# Altium footprint library custom.PcbLib: 39 footprints (part 1 of 3)
Each footprint in its own frame and in the unit in brackets; x right, y up, seen from the top. Pads: shape width x height; smd on the part's side, far side on the other; paste and mask are expansions set on the pad; w line width, h text height; cw(c..) or ccw(c..) is an arc to the next point about the centre after c.
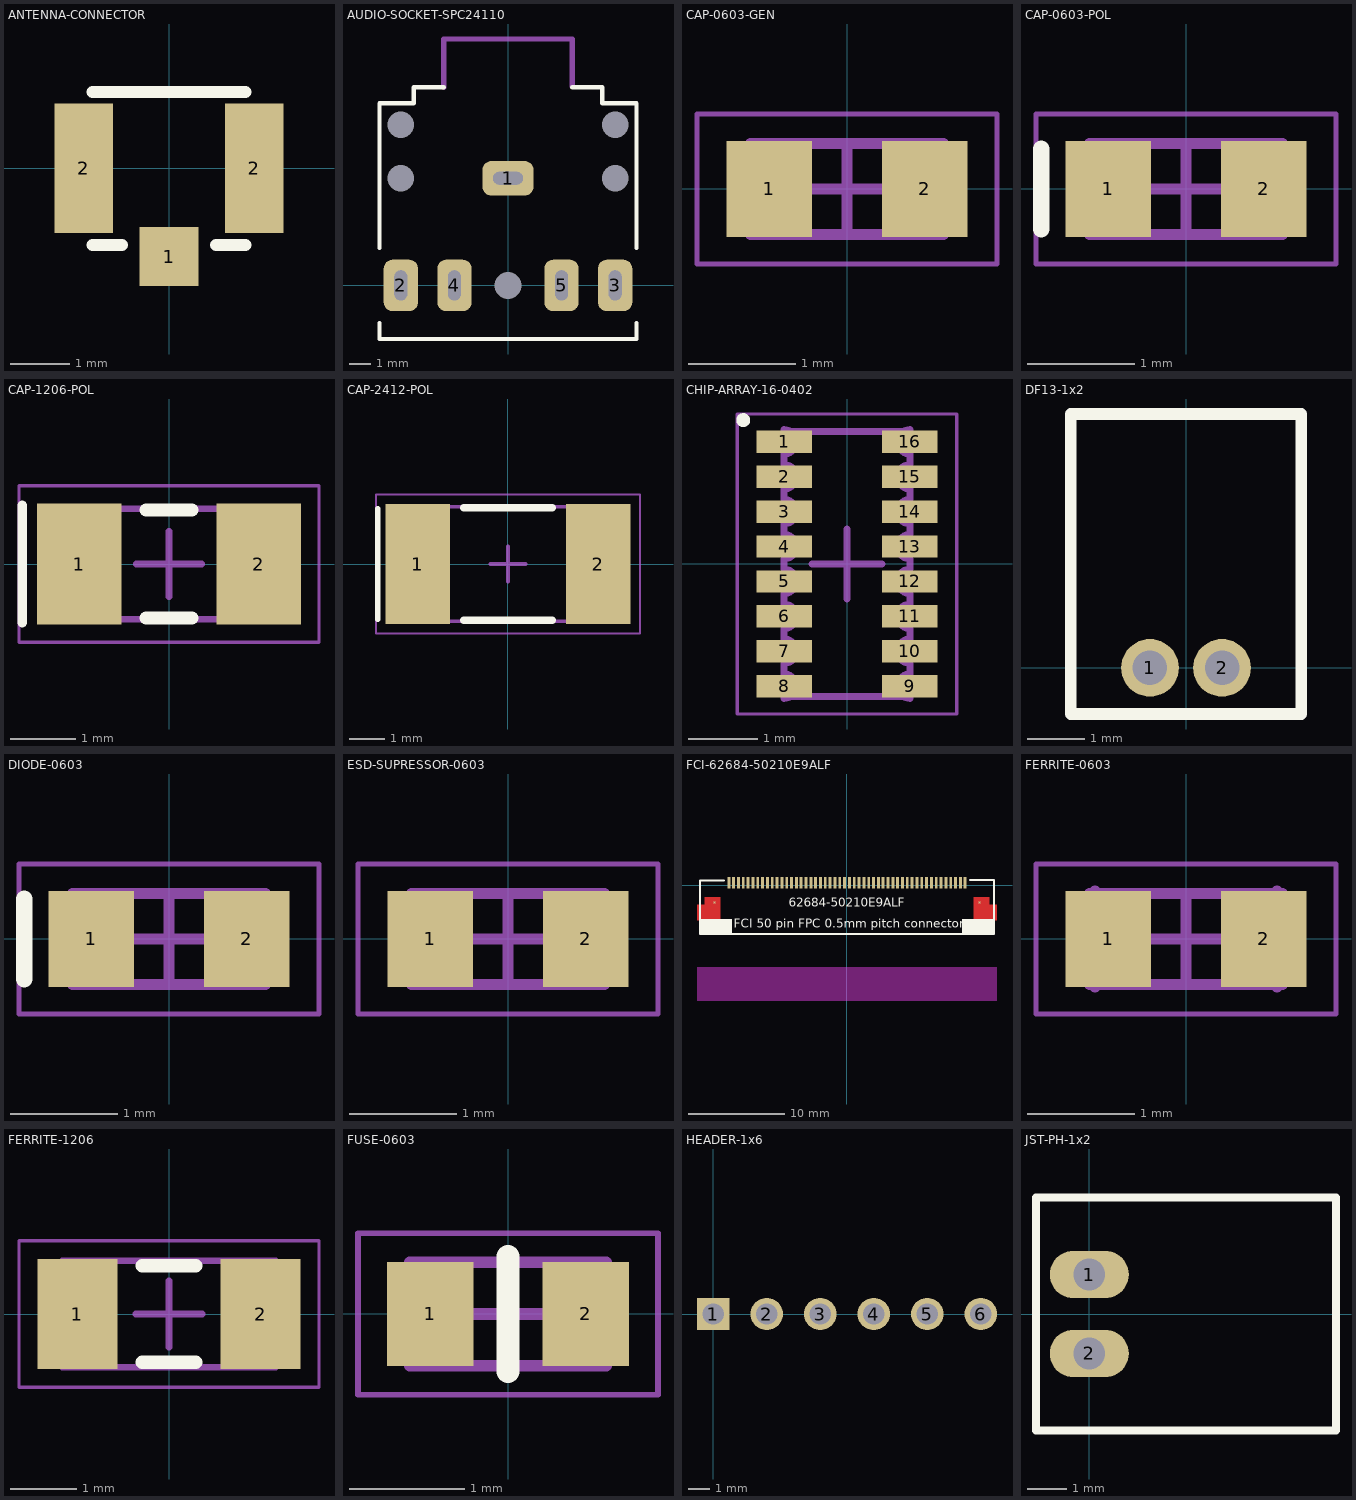
[diagram p0: the footprints below, top view; thin cyan lines are the x and y axes]

## ANTENNA-CONNECTOR [mm] "PCB UFL antenna connector"
height 2
pads (3):
  rect 1x1 smd: 1(0,-1.5)
  rect 1x2.2 smd: 2(-1.45,0) 2(1.45,0)
Top Overlay:
  lines w0.2: -1.3,-1.3 -0.8,-1.3 ; -1.3,1.3 1.3,1.3 ; 0.8,-1.3 1.3,-1.3
3D body: height 1.25, standoff -0.01, extent -1.5,-1.55 1.5,1.55

## AUDIO-SOCKET-SPC24110 [mm] "MULTICOMP  SPC24110  CONNECTOR, JACK, 3.5MM PHONO, THT RA, 3P"
height 6
pads (10):
  rrect50% 2.4x1.6 hole 0.6 slot 1.4 at 0 deg: 1(0,5)
  rrect50% 1.6x2.4 hole 0.6 slot 1.4 at 90 deg: 2(-5,0) 3(5,0) 4(-2.5,0) 5(2.5,0)
  round 0 hole 1.25 unplated: ""(-5,5) ""(-5,7.5) ""(0,0) ""(5,5) ""(5,7.5)
Top Overlay:
  lines w0.2: -6,-1.75 -6,-2.5 6,-2.5 6,-1.75 ; -6,1.75 -6,8.5 -4.4,8.5 -4.4,9.25 -3,9.25 ; 3,9.25 4.4,9.25 4.4,8.5 6,8.5 6,1.75
Mechanical 13:
  lines w0.254: -3,9.25 -3,11.5 3,11.5 3,9.3
3D body: height 5.5, standoff -0.5, extent -6,-2.575 6,11.325

## CAP-0603-GEN [mm] "Non-polarized 0603 (1608) chip capacitor"
height 0.7
pads (2):
  rect 0.8x0.9 smd: 1(-0.725,0) 2(0.725,0)
Mechanical 13:
  lines w0.1: -0.9,-0.425 -0.9,0.425 0.9,0.425 0.9,-0.425 -0.9,-0.425
Mechanical 15:
  lines w0.05: -1.4,-0.7 -1.4,0.7 1.4,0.7 1.4,-0.7 -1.4,-0.7
  lines w0.1: -0.425,0 0.425,0 ; 0,-0.425 0,0.425
3D body: height 0.86, standoff 0, extent -0.8,-0.4 0.8,0.4

## CAP-0603-POL [mm] "0603 (1608) polarized chip capacitor"
height 0.7
pads (2):
  rect 0.8x0.9 smd: 1(-0.725,0) 2(0.725,0)
Top Overlay:
  lines w0.152: -1.35,-0.375 -1.35,0.375
Mechanical 13:
  lines w0.1: -0.9,-0.425 0.9,-0.425 0.9,0.425 -0.9,0.425 -0.9,-0.425
Mechanical 15:
  lines w0.05: -1.4,-0.7 1.4,-0.7 1.4,0.7 -1.4,0.7 -1.4,-0.7
  lines w0.1: -0.425,0 0.425,0 ; 0,-0.425 0,0.425
3D body: height 0.86, standoff 0, extent -0.8,-0.4 0.8,0.4

## CAP-1206-POL [mm] "1206 (3216) polarized chip capacitor"
height 1.4
pads (2):
  rect 1.3x1.85 smd: 1(-1.375,0) 2(1.375,0)
Top Overlay:
  lines w0.152: -2.25,-0.9 -2.25,0.9
  lines w0.2: -0.35,-0.825 0.35,-0.825 ; -0.35,0.825 0.35,0.825
Mechanical 13:
  lines w0.1: -1.6,-0.85 1.6,-0.85 1.6,0.85 -1.6,0.85 -1.6,-0.85
Mechanical 15:
  lines w0.05: -2.3,-1.2 2.3,-1.2 2.3,1.2 -2.3,1.2 -2.3,-1.2
  lines w0.1: -0.5,0 0.5,0 ; 0,-0.5 0,0.5
3D body: height 1.71, standoff 0, extent -1.7,-0.84 1.7,0.84

## CAP-2412-POL [mm] "2412 (6032) polarized chip capacitor"
height 2.5
pads (2):
  rect 1.8x3.35 smd: 1(-2.525,0) 2(2.525,0)
Top Overlay:
  lines w0.152: -3.65,-1.55 -3.65,1.55
  lines w0.2: -1.25,-1.575 1.25,-1.575 ; -1.25,1.575 1.25,1.575
Mechanical 13:
  lines w0.1: -3,-1.6 3,-1.6 3,1.6 -3,1.6 -3,-1.6
Mechanical 15:
  lines w0.05: -3.7,-1.95 3.7,-1.95 3.7,1.95 -3.7,1.95 -3.7,-1.95
  lines w0.1: -0.5,0 0.5,0 ; 0,-0.5 0,0.5
3D body: height 2.7, standoff 0, extent -3.05,-1.675 3.05,1.675

## CHIP-ARRAY-16-0402 [mm] "Chip array with 16 pins 0402 size."
height 0.45
pads (16):
  rect 0.8x0.32 smd: 1(-0.9,1.75) 2(-0.9,1.25) 3(-0.9,0.75) 4(-0.9,0.25) 5(-0.9,-0.25) 6(-0.9,-0.75) 7(-0.9,-1.25) 8(-0.9,-1.75) 9(0.9,-1.75) 10(0.9,-1.25) 11(0.9,-0.75) 12(0.9,-0.25) 13(0.9,0.25) 14(0.9,0.75) 15(0.9,1.25) 16(0.9,1.75)
Top Overlay:
  circle w0.1: c-1.488,2.063 r0.05
Mechanical 13:
  lines w0.1: -0.9,-1.925 ccw(c-0.9,-1.75) -0.9,-1.575 -0.9,-1.425 ccw(c-0.9,-1.25) -0.9,-1.075 -0.9,-0.925 ccw(c-0.9,-0.75) -0.9,-0.575 -0.9,-0.425 ccw(c-0.9,-0.25) -0.9,-0.075 -0.9,0.075 ccw(c-0.9,0.25) -0.9,0.425 -0.9,0.575 ccw(c-0.9,0.75) -0.9,0.925 -0.9,1.075 ccw(c-0.9,1.25) -0.9,1.425 -0.9,1.575 ccw(c-0.9,1.75) -0.9,1.925 -0.9,1.9 0.9,1.9 0.9,1.925 ccw(c0.9,1.75) 0.9,1.575 0.9,1.425 ccw(c0.9,1.25) 0.9,1.075 0.9,0.925 ccw(c0.9,0.75) 0.9,0.575 0.9,0.425 ccw(c0.9,0.25) 0.9,0.075 0.9,-0.075 ccw(c0.9,-0.25) 0.9,-0.425 0.9,-0.575 ccw(c0.9,-0.75) 0.9,-0.925 0.9,-1.075 ccw(c0.9,-1.25) 0.9,-1.425 0.9,-1.575 ccw(c0.9,-1.75) 0.9,-1.925 0.9,-1.9 -0.9,-1.9 -0.9,-1.925
Mechanical 15:
  lines w0.05: -1.57,-2.15 -1.57,2.15 1.57,2.15 1.57,-2.15 -1.57,-2.15
  lines w0.1: -0.5,0 0.5,0 ; 0,-0.5 0,0.5
3D body: height 0.45, standoff 0, extent -0.8,-1.9 0.8,1.9

## DF13-1x2 [mm] "Single row two contact connector"
height 3.6
pads (2):
  round 1 hole 0.6: 1(-0.625,0) 2(0.625,0)
Top Overlay:
  lines w0.2: -2,-0.8 2,-0.8 2,4.4 -2,4.4 -2,-0.8
3D body: height 3.58, standoff -2.32, extent -2.075,-0.9 2.075,4.5

## DIODE-0603 [mm] "0603 (1608) Diode"
height 0.7
pads (2):
  rect 0.8x0.9 smd: 1(-0.725,0) 2(0.725,0)
Top Overlay:
  lines w0.152: -1.35,-0.375 -1.35,0.375
Mechanical 13:
  lines w0.1: -0.9,-0.425 0.9,-0.425 0.9,0.425 -0.9,0.425 -0.9,-0.425
Mechanical 15:
  lines w0.05: -1.4,-0.7 1.4,-0.7 1.4,0.7 -1.4,0.7 -1.4,-0.7
  lines w0.1: -0.425,0 0.425,0 ; 0,-0.425 0,0.425
3D body: height 0.56, standoff 0, extent -0.85,-0.4 0.85,0.4

## ESD-SUPRESSOR-0603 [mm] "0603 (1608) ESD supressor diode"
height 0.7
pads (2):
  rect 0.8x0.9 smd: 1(-0.725,0) 2(0.725,0)
Mechanical 13:
  lines w0.1: -0.9,-0.425 0.9,-0.425 0.9,0.425 -0.9,0.425 -0.9,-0.425
Mechanical 15:
  lines w0.05: -1.4,-0.7 1.4,-0.7 1.4,0.7 -1.4,0.7 -1.4,-0.7
  lines w0.1: -0.425,0 0.425,0 ; 0,-0.425 0,0.425
3D body: height 0.5, standoff 0, extent -0.8,-0.4 0.8,0.4

## FCI-62684-50210E9ALF [mm] "FCI 50 pin FPC 0.5mm pitch connector"
height 2
pads (52):
  rect 0.3x1.2 smd: 1(-12.25,0.25) 2(-11.75,0.25) 3(-11.25,0.25) 4(-10.75,0.25) 5(-10.25,0.25) 6(-9.75,0.25) 7(-9.25,0.25) 8(-8.75,0.25) 9(-8.25,0.25) 10(-7.75,0.25) 11(-7.25,0.25) 12(-6.75,0.25) 13(-6.25,0.25) 14(-5.75,0.25) 15(-5.25,0.25) 16(-4.75,0.25) 17(-4.25,0.25) 18(-3.75,0.25) 19(-3.25,0.25) 20(-2.75,0.25) 21(-2.25,0.25) 22(-1.75,0.25) 23(-1.25,0.25) 24(-0.75,0.25) 25(-0.25,0.25) 26(0.25,0.25) 27(0.75,0.25) 28(1.25,0.25) 29(1.75,0.25) 30(2.25,0.25) 31(2.75,0.25) 32(3.25,0.25) 33(3.75,0.25) 34(4.25,0.25) 35(4.75,0.25) 36(5.25,0.25) 37(5.75,0.25) 38(6.25,0.25) 39(6.75,0.25) 40(7.25,0.25) 41(7.75,0.25) 42(8.25,0.25) 43(8.75,0.25) 44(9.25,0.25) 45(9.75,0.25) 46(10.25,0.25) 47(10.75,0.25) 48(11.25,0.25) 49(11.75,0.25) 50(12.25,0.25)
  rect 0.2x0.2 smd: 50(-13.725,-1.775) 50(13.725,-1.775)
Top Layer:
  region: 13.15,-1.25 13.15,-3.65 15.55,-3.65 15.55,-2.05 14.75,-2.05 14.75,-1.25
  region: -13.15,-1.25 -13.15,-3.65 -15.55,-3.65 -15.55,-2.05 -14.75,-2.05 -14.75,-1.25
Top Overlay:
  rectangle: 11.941,-5.075 15.25,-3.508
  rectangle: -15.25,-5.075 -11.941,-3.508
  lines w0.2: -12.75,0.5 -15.25,0.5 -15.25,-5.075 15.25,-5.075 15.25,0.525 12.75,0.525
  text "62684-50210E9ALF" at -6.047,-2.55 h1.52
  text "FCI 50 pin FPC 0.5mm pitch connector" at -11.741,-4.7 h1.52
Keep-Out Layer:
  board cut-out: -15.5,-8.5 -15.5,-12 15.5,-12 15.5,-8.5
3D body: height 2, standoff -0.05, extent -15.25,-5.08 15.25,0.52

## FERRITE-0603 [mm] "Chip resistor 0603 (1608)"
height 0.45
pads (2):
  rect 0.8x0.9 smd: 1(-0.725,0) 2(0.725,0)
Mechanical 13:
  lines w0.1: -0.9,-0.425 0.9,-0.425 ; -0.9,0.425 0.9,0.425 ; -0.85,-0.45 -0.85,0.45 ; 0.85,-0.45 0.85,0.45
Mechanical 15:
  lines w0.05: -1.4,-0.7 1.4,-0.7 1.4,0.7 -1.4,0.7 -1.4,-0.7
  lines w0.1: -0.45,0 0.45,0 ; 0,-0.425 0,0.425
3D body: height 0.5, standoff 0, extent -0.8,-0.4 0.8,0.4

## FERRITE-1206 [mm] "1206 (3216) ferrite bead"
height 1.1
pads (2):
  rect 1.2x1.65 smd: 1(-1.375,0) 2(1.375,0)
Top Overlay:
  lines w0.2: -0.4,-0.725 0.4,-0.725 ; -0.4,0.725 0.4,0.725
Mechanical 13:
  lines w0.1: -1.6,-0.8 -1.6,0.8 1.6,0.8 1.6,-0.8 -1.6,-0.8
Mechanical 15:
  lines w0.05: -2.25,-1.1 -2.25,1.1 2.25,1.1 2.25,-1.1 -2.25,-1.1
  lines w0.1: -0.5,0 0.5,0 ; 0,-0.5 0,0.5
3D body: height 0.6, standoff 0, extent -1.6,-0.8 1.6,0.8

## FUSE-0603 [mm] "0603 (1608) resettable fuse"
height 1
pads (2):
  rect 0.75x0.9 smd: 1(-0.675,0) 2(0.675,0)
Top Overlay:
  lines w0.2: 0,-0.5 0,0.5
Mechanical 13:
  lines w0.1: -0.85,-0.45 0.85,-0.45 0.85,0.45 -0.85,0.45 -0.85,-0.45
Mechanical 15:
  lines w0.05: -1.3,-0.7 1.3,-0.7 1.3,0.7 -1.3,0.7 -1.3,-0.7
  lines w0.1: -0.45,0 0.45,0 ; 0,-0.45 0,0.45
3D body: height 0.45, standoff 0, extent -0.8,-0.425 0.8,0.425

## HEADER-1x6 [mm] "Single row 6 pin header"
height 3.85
pads (6):
  rect 1.54x1.54 hole 1: 1(0,0)
  round 1.54 hole 1: 2(2.54,0) 3(5.08,0) 4(7.62,0) 5(10.16,0) 6(12.7,0)

## JST-PH-1x2 [mm] "JST-PH single row two contact connector"
height 4.5
pads (2):
  oval 2x1.2 hole 0.8: 1(0,1) 2(0,-1)
Top Overlay:
  lines w0.2: -1.35,-2.95 -1.35,2.95 0,2.95 6.25,2.95 6.25,-2.95 0,-2.95 -1.35,-2.95
3D body: height 4.8, standoff -3.4, extent -1.35,-2.975 6.25,2.925